# Altium schematic symbol library jlcpcb_resistors_basic.schlib: 256 symbols (part 1 of 5)
Pins are listed as number, name and electrical type; pins without a type are passive.

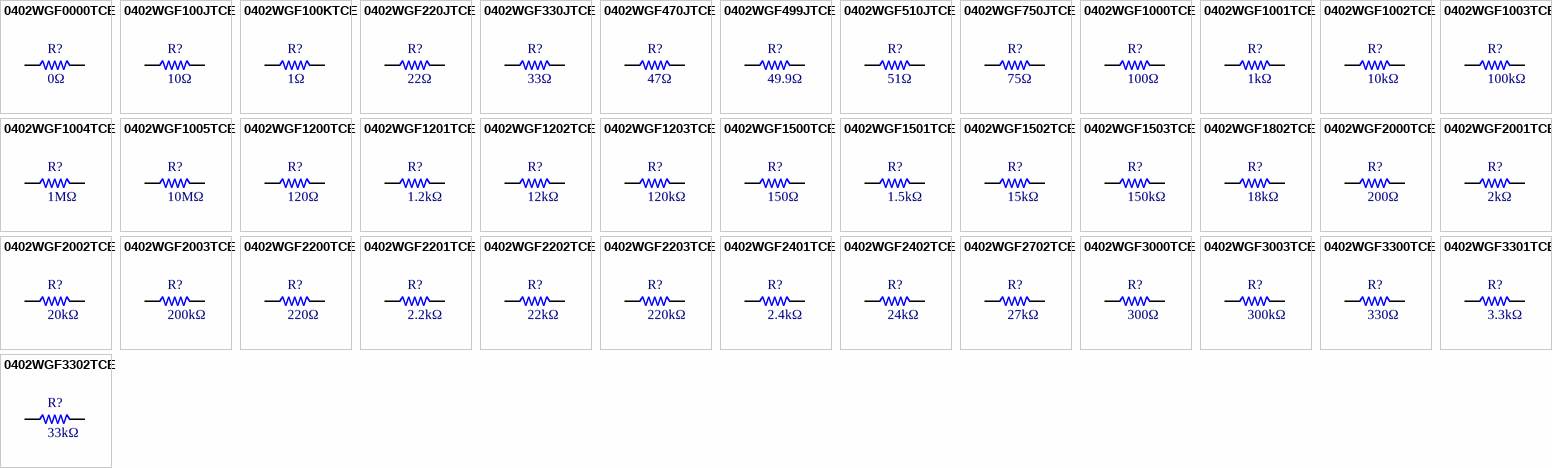
[diagram p0: symbols 0402WGF0000TCE to 0402WGF3302TCE]

## 0402WGF0000TCE
designator R?  Resistance: 0Ω  (hidden comment: *)
Resistor, 0Ω, ±1%, 62.5mW, 50V, ±800ppm/°C, -55°C to +155°C, SMD 0402; Manufacturer: Uniroyal; Manufacturer Part Number: 0402WGF0000TCE; Supplier 1: LCSC; Supplier Part Number 1: C17168; JLCPCB Part Number: C17168; Power Rating: 62.5mW; Category: Resistors; Package Size: 0402; JLCPCB Basic Part: Yes; Tolerance: ±1%; Voltage Rating: 50V; Temperature Coefficient: ±800ppm/°C; Temperature Rating: -55°C to +155°C; ComponentLink1Description: Datasheet; ComponentLink1URL: https://datasheet.lcsc.com/lcsc/2206010216_UNI-ROYAL-Uniroyal-Elec-0402WGF0000TCE_C17168.pdf; ComponentLink2Description: JLCPCB Part URL; ComponentLink2URL: https://jlcpcb.com/partdetail/17853-0402WGF0000TCE/C17168
footprint RES-0402 (0402 (1005M) Resistor)
pins: 1, 2

## 0402WGF100JTCE
designator R?  Resistance: 10Ω  (hidden comment: *)
Resistor, 10Ω, ±1%, 62.5mW, 50V, ±200ppm/°C, -55°C to +155°C, SMD 0402; Manufacturer: Uniroyal; Manufacturer Part Number: 0402WGF100JTCE; Supplier 1: LCSC; Supplier Part Number 1: C25077; JLCPCB Part Number: C25077; Power Rating: 62.5mW; Category: Resistors; Package Size: 0402; JLCPCB Basic Part: Yes; Tolerance: ±1%; Voltage Rating: 50V; Temperature Coefficient: ±200ppm/°C; Temperature Rating: -55°C to +155°C; ComponentLink1Description: Datasheet; ComponentLink1URL: https://datasheet.lcsc.com/lcsc/2205311900_UNI-ROYAL-Uniroyal-Elec-0402WGF100JTCE_C25077.pdf; ComponentLink2Description: JLCPCB Part URL; ComponentLink2URL: https://jlcpcb.com/partdetail/25820-0402WGF100JTCE/C25077
footprint RES-0402 (0402 (1005M) Resistor)
pins: 1, 2

## 0402WGF100KTCE
designator R?  Resistance: 1Ω  (hidden comment: *)
Resistor, 1Ω, ±1%, 62.5mW, 50V, ±200ppm/°C, -55°C to +155°C, SMD 0402; Manufacturer: Uniroyal; Manufacturer Part Number: 0402WGF100KTCE; Supplier 1: LCSC; Supplier Part Number 1: C25086; JLCPCB Part Number: C25086; Power Rating: 62.5mW; Category: Resistors; Package Size: 0402; JLCPCB Basic Part: Yes; Tolerance: ±1%; Voltage Rating: 50V; Temperature Coefficient: ±200ppm/°C; Temperature Rating: -55°C to +155°C; ComponentLink1Description: Datasheet; ComponentLink1URL: https://datasheet.lcsc.com/lcsc/2205311900_UNI-ROYAL-Uniroyal-Elec-0402WGF100KTCE_C25086.pdf; ComponentLink2Description: JLCPCB Part URL; ComponentLink2URL: https://jlcpcb.com/partdetail/25829-0402WGF100KTCE/C25086
footprint RES-0402 (0402 (1005M) Resistor)
pins: 1, 2

## 0402WGF220JTCE
designator R?  Resistance: 22Ω  (hidden comment: *)
Resistor, 22Ω, ±1%, 62.5mW, 50V, ±200ppm/°C, -55°C to +155°C, SMD 0402; Manufacturer: Uniroyal; Manufacturer Part Number: 0402WGF220JTCE; Supplier 1: LCSC; Supplier Part Number 1: C25092; JLCPCB Part Number: C25092; Power Rating: 62.5mW; Category: Resistors; Package Size: 0402; JLCPCB Basic Part: Yes; Tolerance: ±1%; Voltage Rating: 50V; Temperature Coefficient: ±200ppm/°C; Temperature Rating: -55°C to +155°C; ComponentLink1Description: Datasheet; ComponentLink1URL: https://datasheet.lcsc.com/lcsc/2205311900_UNI-ROYAL-Uniroyal-Elec-0402WGF220JTCE_C25092.pdf; ComponentLink2Description: JLCPCB Part URL; ComponentLink2URL: https://jlcpcb.com/partdetail/25835-0402WGF220JTCE/C25092
footprint RES-0402 (0402 (1005M) Resistor)
pins: 1, 2

## 0402WGF330JTCE
designator R?  Resistance: 33Ω  (hidden comment: *)
Resistor, 33Ω, ±1%, 62.5mW, 50V, ±100ppm/°C, -55°C to +155°C, SMD 0402; Manufacturer: Uniroyal; Manufacturer Part Number: 0402WGF330JTCE; Supplier 1: LCSC; Supplier Part Number 1: C25105; JLCPCB Part Number: C25105; Power Rating: 62.5mW; Category: Resistors; Package Size: 0402; JLCPCB Basic Part: Yes; Tolerance: ±1%; Voltage Rating: 50V; Temperature Coefficient: ±100ppm/°C; Temperature Rating: -55°C to +155°C; ComponentLink1Description: Datasheet; ComponentLink1URL: https://datasheet.lcsc.com/lcsc/2205311900_UNI-ROYAL-Uniroyal-Elec-0402WGF330JTCE_C25105.pdf; ComponentLink2Description: JLCPCB Part URL; ComponentLink2URL: https://jlcpcb.com/partdetail/25848-0402WGF330JTCE/C25105
footprint RES-0402 (0402 (1005M) Resistor)
pins: 1, 2

## 0402WGF470JTCE
designator R?  Resistance: 47Ω  (hidden comment: *)
Resistor, 47Ω, ±1%, 62.5mW, 50V, ±200ppm/°C, -55°C to +155°C, SMD 0402; Manufacturer: Uniroyal; Manufacturer Part Number: 0402WGF470JTCE; Supplier 1: LCSC; Supplier Part Number 1: C25118; JLCPCB Part Number: C25118; Power Rating: 62.5mW; Category: Resistors; Package Size: 0402; JLCPCB Basic Part: Yes; Tolerance: ±1%; Voltage Rating: 50V; Temperature Coefficient: ±200ppm/°C; Temperature Rating: -55°C to +155°C; ComponentLink1Description: Datasheet; ComponentLink1URL: https://datasheet.lcsc.com/lcsc/2205311900_UNI-ROYAL-Uniroyal-Elec-0402WGF470JTCE_C25118.pdf; ComponentLink2Description: JLCPCB Part URL; ComponentLink2URL: https://jlcpcb.com/partdetail/25861-0402WGF470JTCE/C25118
footprint RES-0402 (0402 (1005M) Resistor)
pins: 1, 2

## 0402WGF499JTCE
designator R?  Resistance: 49.9Ω  (hidden comment: *)
Resistor, 49.9Ω, ±1%, 62.5mW, 50V, ±100ppm/°C, -55°C to +155°C, SMD 0402; Manufacturer: Uniroyal; Manufacturer Part Number: 0402WGF499JTCE; Supplier 1: LCSC; Supplier Part Number 1: C25120; JLCPCB Part Number: C25120; Power Rating: 62.5mW; Category: Resistors; Package Size: 0402; JLCPCB Basic Part: Yes; Tolerance: ±1%; Voltage Rating: 50V; Temperature Coefficient: ±100ppm/°C; Temperature Rating: -55°C to +155°C; ComponentLink1Description: Datasheet; ComponentLink1URL: https://datasheet.lcsc.com/lcsc/2205311900_UNI-ROYAL-Uniroyal-Elec-0402WGF499JTCE_C25120.pdf; ComponentLink2Description: JLCPCB Part URL; ComponentLink2URL: https://jlcpcb.com/partdetail/25863-0402WGF499JTCE/C25120
footprint RES-0402 (0402 (1005M) Resistor)
pins: 1, 2

## 0402WGF510JTCE
designator R?  Resistance: 51Ω  (hidden comment: *)
Resistor, 51Ω, ±1%, 62.5mW, 50V, ±100ppm/°C, -55°C to +155°C, SMD 0402; Manufacturer: Uniroyal; Manufacturer Part Number: 0402WGF510JTCE; Supplier 1: LCSC; Supplier Part Number 1: C25125; JLCPCB Part Number: C25125; Power Rating: 62.5mW; Category: Resistors; Package Size: 0402; JLCPCB Basic Part: Yes; Tolerance: ±1%; Voltage Rating: 50V; Temperature Coefficient: ±100ppm/°C; Temperature Rating: -55°C to +155°C; ComponentLink1Description: Datasheet; ComponentLink1URL: https://datasheet.lcsc.com/lcsc/2205311900_UNI-ROYAL-Uniroyal-Elec-0402WGF510JTCE_C25125.pdf; ComponentLink2Description: JLCPCB Part URL; ComponentLink2URL: https://jlcpcb.com/partdetail/25868-0402WGF510JTCE/C25125
footprint RES-0402 (0402 (1005M) Resistor)
pins: 1, 2

## 0402WGF750JTCE
designator R?  Resistance: 75Ω  (hidden comment: *)
Resistor, 75Ω, ±1%, 62.5mW, 50V, ±100ppm/°C, -55°C to +155°C, SMD 0402; Manufacturer: Uniroyal; Manufacturer Part Number: 0402WGF750JTCE; Supplier 1: LCSC; Supplier Part Number 1: C25133; JLCPCB Part Number: C25133; Power Rating: 62.5mW; Category: Resistors; Package Size: 0402; JLCPCB Basic Part: Yes; Tolerance: ±1%; Voltage Rating: 50V; Temperature Coefficient: ±100ppm/°C; Temperature Rating: -55°C to +155°C; ComponentLink1Description: Datasheet; ComponentLink1URL: https://datasheet.lcsc.com/lcsc/2205311900_UNI-ROYAL-Uniroyal-Elec-0402WGF750JTCE_C25133.pdf; ComponentLink2Description: JLCPCB Part URL; ComponentLink2URL: https://jlcpcb.com/partdetail/25876-0402WGF750JTCE/C25133
footprint RES-0402 (0402 (1005M) Resistor)
pins: 1, 2

## 0402WGF1000TCE
designator R?  Resistance: 100Ω  (hidden comment: *)
Resistor, 100Ω, ±1%, 62.5mW, 50V, ±200ppm/°C, -55°C to +155°C, SMD 0402; Manufacturer: Uniroyal; Manufacturer Part Number: 0402WGF1000TCE; Supplier 1: LCSC; Supplier Part Number 1: C25076; JLCPCB Part Number: C25076; Power Rating: 62.5mW; Category: Resistors; Package Size: 0402; JLCPCB Basic Part: Yes; Tolerance: ±1%; Voltage Rating: 50V; Temperature Coefficient: ±200ppm/°C; Temperature Rating: -55°C to +155°C; ComponentLink1Description: Datasheet; ComponentLink1URL: https://datasheet.lcsc.com/lcsc/2205311900_UNI-ROYAL-Uniroyal-Elec-0402WGF1000TCE_C25076.pdf; ComponentLink2Description: JLCPCB Part URL; ComponentLink2URL: https://jlcpcb.com/partdetail/25819-0402WGF1000TCE/C25076
footprint RES-0402 (0402 (1005M) Resistor)
pins: 1, 2

## 0402WGF1001TCE
designator R?  Resistance: 1kΩ  (hidden comment: *)
Resistor, 1kΩ, ±1%, 62.5mW, 50V, ±100ppm/°C, -55°C to +155°C, SMD 0402; Manufacturer: Uniroyal; Manufacturer Part Number: 0402WGF1001TCE; Supplier 1: LCSC; Supplier Part Number 1: C11702; JLCPCB Part Number: C11702; Power Rating: 62.5mW; Category: Resistors; Package Size: 0402; JLCPCB Basic Part: Yes; Tolerance: ±1%; Voltage Rating: 50V; Temperature Coefficient: ±100ppm/°C; Temperature Rating: -55°C to +155°C; ComponentLink1Description: Datasheet; ComponentLink1URL: https://datasheet.lcsc.com/lcsc/2206010216_UNI-ROYAL-Uniroyal-Elec-0402WGF1001TCE_C11702.pdf; ComponentLink2Description: JLCPCB Part URL; ComponentLink2URL: https://jlcpcb.com/partdetail/12256-0402WGF1001TCE/C11702
footprint RES-0402 (0402 (1005M) Resistor)
pins: 1, 2

## 0402WGF1002TCE
designator R?  Resistance: 10kΩ  (hidden comment: *)
Resistor, 10kΩ, ±1%, 62.5mW, 50V, ±100ppm/°C, -55°C to +155°C, SMD 0402; Manufacturer: Uniroyal; Manufacturer Part Number: 0402WGF1002TCE; Supplier 1: LCSC; Supplier Part Number 1: C25744; JLCPCB Part Number: C25744; Power Rating: 62.5mW; Category: Resistors; Package Size: 0402; JLCPCB Basic Part: Yes; Tolerance: ±1%; Voltage Rating: 50V; Temperature Coefficient: ±100ppm/°C; Temperature Rating: -55°C to +155°C; ComponentLink1Description: Datasheet; ComponentLink1URL: https://datasheet.lcsc.com/lcsc/2206010100_UNI-ROYAL-Uniroyal-Elec-0402WGF1002TCE_C25744.pdf; ComponentLink2Description: JLCPCB Part URL; ComponentLink2URL: https://jlcpcb.com/partdetail/26487-0402WGF1002TCE/C25744
footprint RES-0402 (0402 (1005M) Resistor)
pins: 1, 2

## 0402WGF1003TCE
designator R?  Resistance: 100kΩ  (hidden comment: *)
Resistor, 100kΩ, ±1%, 62.5mW, 50V, ±100ppm/°C, -55°C to +155°C, SMD 0402; Manufacturer: Uniroyal; Manufacturer Part Number: 0402WGF1003TCE; Supplier 1: LCSC; Supplier Part Number 1: C25741; JLCPCB Part Number: C25741; Power Rating: 62.5mW; Category: Resistors; Package Size: 0402; JLCPCB Basic Part: Yes; Tolerance: ±1%; Voltage Rating: 50V; Temperature Coefficient: ±100ppm/°C; Temperature Rating: -55°C to +155°C; ComponentLink1Description: Datasheet; ComponentLink1URL: https://datasheet.lcsc.com/lcsc/2206010100_UNI-ROYAL-Uniroyal-Elec-0402WGF1003TCE_C25741.pdf; ComponentLink2Description: JLCPCB Part URL; ComponentLink2URL: https://jlcpcb.com/partdetail/26484-0402WGF1003TCE/C25741
footprint RES-0402 (0402 (1005M) Resistor)
pins: 1, 2

## 0402WGF1004TCE
designator R?  Resistance: 1MΩ  (hidden comment: *)
Resistor, 1MΩ, ±1%, 62.5mW, 50V, ±100ppm/°C, -55°C to +155°C, SMD 0402; Manufacturer: Uniroyal; Manufacturer Part Number: 0402WGF1004TCE; Supplier 1: LCSC; Supplier Part Number 1: C26083; JLCPCB Part Number: C26083; Power Rating: 62.5mW; Category: Resistors; Package Size: 0402; JLCPCB Basic Part: Yes; Tolerance: ±1%; Voltage Rating: 50V; Temperature Coefficient: ±100ppm/°C; Temperature Rating: -55°C to +155°C; ComponentLink1Description: Datasheet; ComponentLink1URL: https://datasheet.lcsc.com/lcsc/2206010030_UNI-ROYAL-Uniroyal-Elec-0402WGF1004TCE_C26083.pdf; ComponentLink2Description: JLCPCB Part URL; ComponentLink2URL: https://jlcpcb.com/partdetail/26826-0402WGF1004TCE/C26083
footprint RES-0402 (0402 (1005M) Resistor)
pins: 1, 2

## 0402WGF1005TCE
designator R?  Resistance: 10MΩ  (hidden comment: *)
Resistor, 10MΩ, ±1%, 62.5mW, 50V, ±200ppm/°C, -55°C to +155°C, SMD 0402; Manufacturer: Uniroyal; Manufacturer Part Number: 0402WGF1005TCE; Supplier 1: LCSC; Supplier Part Number 1: C26082; JLCPCB Part Number: C26082; Power Rating: 62.5mW; Category: Resistors; Package Size: 0402; JLCPCB Basic Part: Yes; Tolerance: ±1%; Voltage Rating: 50V; Temperature Coefficient: ±200ppm/°C; Temperature Rating: -55°C to +155°C; ComponentLink1Description: Datasheet; ComponentLink1URL: https://datasheet.lcsc.com/lcsc/2206010030_UNI-ROYAL-Uniroyal-Elec-0402WGF1005TCE_C26082.pdf; ComponentLink2Description: JLCPCB Part URL; ComponentLink2URL: https://jlcpcb.com/partdetail/26825-0402WGF1005TCE/C26082
footprint RES-0402 (0402 (1005M) Resistor)
pins: 1, 2

## 0402WGF1200TCE
designator R?  Resistance: 120Ω  (hidden comment: *)
Resistor, 120Ω, ±1%, 62.5mW, 50V, ±100ppm/°C, -55°C to +155°C, SMD 0402; Manufacturer: Uniroyal; Manufacturer Part Number: 0402WGF1200TCE; Supplier 1: LCSC; Supplier Part Number 1: C25079; JLCPCB Part Number: C25079; Power Rating: 62.5mW; Category: Resistors; Package Size: 0402; JLCPCB Basic Part: Yes; Tolerance: ±1%; Voltage Rating: 50V; Temperature Coefficient: ±100ppm/°C; Temperature Rating: -55°C to +155°C; ComponentLink1Description: Datasheet; ComponentLink1URL: https://datasheet.lcsc.com/lcsc/2205311900_UNI-ROYAL-Uniroyal-Elec-0402WGF1200TCE_C25079.pdf; ComponentLink2Description: JLCPCB Part URL; ComponentLink2URL: https://jlcpcb.com/partdetail/25822-0402WGF1200TCE/C25079
footprint RES-0402 (0402 (1005M) Resistor)
pins: 1, 2

## 0402WGF1201TCE
designator R?  Resistance: 1.2kΩ  (hidden comment: *)
Resistor, 1.2kΩ, ±1%, 62.5mW, 50V, ±100ppm/°C, -55°C to +155°C, SMD 0402; Manufacturer: Uniroyal; Manufacturer Part Number: 0402WGF1201TCE; Supplier 1: LCSC; Supplier Part Number 1: C25862; JLCPCB Part Number: C25862; Power Rating: 62.5mW; Category: Resistors; Package Size: 0402; JLCPCB Basic Part: Yes; Tolerance: ±1%; Voltage Rating: 50V; Temperature Coefficient: ±100ppm/°C; Temperature Rating: -55°C to +155°C; ComponentLink1Description: Datasheet; ComponentLink1URL: https://datasheet.lcsc.com/lcsc/2206010045_UNI-ROYAL-Uniroyal-Elec-0402WGF1201TCE_C25862.pdf; ComponentLink2Description: JLCPCB Part URL; ComponentLink2URL: https://jlcpcb.com/partdetail/26605-0402WGF1201TCE/C25862
footprint RES-0402 (0402 (1005M) Resistor)
pins: 1, 2

## 0402WGF1202TCE
designator R?  Resistance: 12kΩ  (hidden comment: *)
Resistor, 12kΩ, ±1%, 62.5mW, 50V, ±100ppm/°C, -55°C to +155°C, SMD 0402; Manufacturer: Uniroyal; Manufacturer Part Number: 0402WGF1202TCE; Supplier 1: LCSC; Supplier Part Number 1: C25752; JLCPCB Part Number: C25752; Power Rating: 62.5mW; Category: Resistors; Package Size: 0402; JLCPCB Basic Part: Yes; Tolerance: ±1%; Voltage Rating: 50V; Temperature Coefficient: ±100ppm/°C; Temperature Rating: -55°C to +155°C; ComponentLink1Description: Datasheet; ComponentLink1URL: https://datasheet.lcsc.com/lcsc/2206010100_UNI-ROYAL-Uniroyal-Elec-0402WGF1202TCE_C25752.pdf; ComponentLink2Description: JLCPCB Part URL; ComponentLink2URL: https://jlcpcb.com/partdetail/26495-0402WGF1202TCE/C25752
footprint RES-0402 (0402 (1005M) Resistor)
pins: 1, 2

## 0402WGF1203TCE
designator R?  Resistance: 120kΩ  (hidden comment: *)
Resistor, 120kΩ, ±1%, 62.5mW, 50V, ±100ppm/°C, -55°C to +155°C, SMD 0402; Manufacturer: Uniroyal; Manufacturer Part Number: 0402WGF1203TCE; Supplier 1: LCSC; Supplier Part Number 1: C25750; JLCPCB Part Number: C25750; Power Rating: 62.5mW; Category: Resistors; Package Size: 0402; JLCPCB Basic Part: Yes; Tolerance: ±1%; Voltage Rating: 50V; Temperature Coefficient: ±100ppm/°C; Temperature Rating: -55°C to +155°C; ComponentLink1Description: Datasheet; ComponentLink1URL: https://datasheet.lcsc.com/lcsc/2206010100_UNI-ROYAL-Uniroyal-Elec-0402WGF1203TCE_C25750.pdf; ComponentLink2Description: JLCPCB Part URL; ComponentLink2URL: https://jlcpcb.com/partdetail/26493-0402WGF1203TCE/C25750
footprint RES-0402 (0402 (1005M) Resistor)
pins: 1, 2

## 0402WGF1500TCE
designator R?  Resistance: 150Ω  (hidden comment: *)
Resistor, 150Ω, ±1%, 62.5mW, 50V, ±100ppm/°C, -55°C to +155°C, SMD 0402; Manufacturer: Uniroyal; Manufacturer Part Number: 0402WGF1500TCE; Supplier 1: LCSC; Supplier Part Number 1: C25082; JLCPCB Part Number: C25082; Power Rating: 62.5mW; Category: Resistors; Package Size: 0402; JLCPCB Basic Part: Yes; Tolerance: ±1%; Voltage Rating: 50V; Temperature Coefficient: ±100ppm/°C; Temperature Rating: -55°C to +155°C; ComponentLink1Description: Datasheet; ComponentLink1URL: https://datasheet.lcsc.com/lcsc/2205311900_UNI-ROYAL-Uniroyal-Elec-0402WGF1500TCE_C25082.pdf; ComponentLink2Description: JLCPCB Part URL; ComponentLink2URL: https://jlcpcb.com/partdetail/25825-0402WGF1500TCE/C25082
footprint RES-0402 (0402 (1005M) Resistor)
pins: 1, 2

## 0402WGF1501TCE
designator R?  Resistance: 1.5kΩ  (hidden comment: *)
Resistor, 1.5kΩ, ±1%, 62.5mW, 50V, ±100ppm/°C, -55°C to +155°C, SMD 0402; Manufacturer: Uniroyal; Manufacturer Part Number: 0402WGF1501TCE; Supplier 1: LCSC; Supplier Part Number 1: C25867; JLCPCB Part Number: C25867; Power Rating: 62.5mW; Category: Resistors; Package Size: 0402; JLCPCB Basic Part: Yes; Tolerance: ±1%; Voltage Rating: 50V; Temperature Coefficient: ±100ppm/°C; Temperature Rating: -55°C to +155°C; ComponentLink1Description: Datasheet; ComponentLink1URL: https://datasheet.lcsc.com/lcsc/2206010045_UNI-ROYAL-Uniroyal-Elec-0402WGF1501TCE_C25867.pdf; ComponentLink2Description: JLCPCB Part URL; ComponentLink2URL: https://jlcpcb.com/partdetail/26610-0402WGF1501TCE/C25867
footprint RES-0402 (0402 (1005M) Resistor)
pins: 1, 2

## 0402WGF1502TCE
designator R?  Resistance: 15kΩ  (hidden comment: *)
Resistor, 15kΩ, ±1%, 62.5mW, 50V, ±100ppm/°C, -55°C to +155°C, SMD 0402; Manufacturer: Uniroyal; Manufacturer Part Number: 0402WGF1502TCE; Supplier 1: LCSC; Supplier Part Number 1: C25756; JLCPCB Part Number: C25756; Power Rating: 62.5mW; Category: Resistors; Package Size: 0402; JLCPCB Basic Part: Yes; Tolerance: ±1%; Voltage Rating: 50V; Temperature Coefficient: ±100ppm/°C; Temperature Rating: -55°C to +155°C; ComponentLink1Description: Datasheet; ComponentLink1URL: https://datasheet.lcsc.com/lcsc/2206010100_UNI-ROYAL-Uniroyal-Elec-0402WGF1502TCE_C25756.pdf; ComponentLink2Description: JLCPCB Part URL; ComponentLink2URL: https://jlcpcb.com/partdetail/26499-0402WGF1502TCE/C25756
footprint RES-0402 (0402 (1005M) Resistor)
pins: 1, 2

## 0402WGF1503TCE
designator R?  Resistance: 150kΩ  (hidden comment: *)
Resistor, 150kΩ, ±1%, 62.5mW, 50V, ±100ppm/°C, -55°C to +155°C, SMD 0402; Manufacturer: Uniroyal; Manufacturer Part Number: 0402WGF1503TCE; Supplier 1: LCSC; Supplier Part Number 1: C25755; JLCPCB Part Number: C25755; Power Rating: 62.5mW; Category: Resistors; Package Size: 0402; JLCPCB Basic Part: Yes; Tolerance: ±1%; Voltage Rating: 50V; Temperature Coefficient: ±100ppm/°C; Temperature Rating: -55°C to +155°C; ComponentLink1Description: Datasheet; ComponentLink1URL: https://datasheet.lcsc.com/lcsc/2206010100_UNI-ROYAL-Uniroyal-Elec-0402WGF1503TCE_C25755.pdf; ComponentLink2Description: JLCPCB Part URL; ComponentLink2URL: https://jlcpcb.com/partdetail/26498-0402WGF1503TCE/C25755
footprint RES-0402 (0402 (1005M) Resistor)
pins: 1, 2

## 0402WGF1802TCE
designator R?  Resistance: 18kΩ  (hidden comment: *)
Resistor, 18kΩ, ±1%, 62.5mW, 50V, ±100ppm/°C, -55°C to +155°C, SMD 0402; Manufacturer: Uniroyal; Manufacturer Part Number: 0402WGF1802TCE; Supplier 1: LCSC; Supplier Part Number 1: C25762; JLCPCB Part Number: C25762; Power Rating: 62.5mW; Category: Resistors; Package Size: 0402; JLCPCB Basic Part: Yes; Tolerance: ±1%; Voltage Rating: 50V; Temperature Coefficient: ±100ppm/°C; Temperature Rating: -55°C to +155°C; ComponentLink1Description: Datasheet; ComponentLink1URL: https://datasheet.lcsc.com/lcsc/2206010100_UNI-ROYAL-Uniroyal-Elec-0402WGF1802TCE_C25762.pdf; ComponentLink2Description: JLCPCB Part URL; ComponentLink2URL: https://jlcpcb.com/partdetail/26505-0402WGF1802TCE/C25762
footprint RES-0402 (0402 (1005M) Resistor)
pins: 1, 2

## 0402WGF2000TCE
designator R?  Resistance: 200Ω  (hidden comment: *)
Resistor, 200Ω, ±1%, 62.5mW, 50V, ±100ppm/°C, -55°C to +155°C, SMD 0402; Manufacturer: Uniroyal; Manufacturer Part Number: 0402WGF2000TCE; Supplier 1: LCSC; Supplier Part Number 1: C25087; JLCPCB Part Number: C25087; Power Rating: 62.5mW; Category: Resistors; Package Size: 0402; JLCPCB Basic Part: Yes; Tolerance: ±1%; Voltage Rating: 50V; Temperature Coefficient: ±100ppm/°C; Temperature Rating: -55°C to +155°C; ComponentLink1Description: Datasheet; ComponentLink1URL: https://datasheet.lcsc.com/lcsc/2205311900_UNI-ROYAL-Uniroyal-Elec-0402WGF2000TCE_C25087.pdf; ComponentLink2Description: JLCPCB Part URL; ComponentLink2URL: https://jlcpcb.com/partdetail/25830-0402WGF2000TCE/C25087
footprint RES-0402 (0402 (1005M) Resistor)
pins: 1, 2

## 0402WGF2001TCE
designator R?  Resistance: 2kΩ  (hidden comment: *)
Resistor, 2kΩ, ±1%, 62.5mW, 50V, ±100ppm/°C, -55°C to +155°C, SMD 0402; Manufacturer: Uniroyal; Manufacturer Part Number: 0402WGF2001TCE; Supplier 1: LCSC; Supplier Part Number 1: C4109; JLCPCB Part Number: C4109; Power Rating: 62.5mW; Category: Resistors; Package Size: 0402; JLCPCB Basic Part: Yes; Tolerance: ±1%; Voltage Rating: 50V; Temperature Coefficient: ±100ppm/°C; Temperature Rating: -55°C to +155°C; ComponentLink1Description: Datasheet; ComponentLink1URL: https://datasheet.lcsc.com/lcsc/2206010230_UNI-ROYAL-Uniroyal-Elec-0402WGF2001TCE_C4109.pdf; ComponentLink2Description: JLCPCB Part URL; ComponentLink2URL: https://jlcpcb.com/partdetail/4516-0402WGF2001TCE/C4109
footprint RES-0402 (0402 (1005M) Resistor)
pins: 1, 2

## 0402WGF2002TCE
designator R?  Resistance: 20kΩ  (hidden comment: *)
Resistor, 20kΩ, ±1%, 62.5mW, 50V, ±100ppm/°C, -55°C to +155°C, SMD 0402; Manufacturer: Uniroyal; Manufacturer Part Number: 0402WGF2002TCE; Supplier 1: LCSC; Supplier Part Number 1: C25765; JLCPCB Part Number: C25765; Power Rating: 62.5mW; Category: Resistors; Package Size: 0402; JLCPCB Basic Part: Yes; Tolerance: ±1%; Voltage Rating: 50V; Temperature Coefficient: ±100ppm/°C; Temperature Rating: -55°C to +155°C; ComponentLink1Description: Datasheet; ComponentLink1URL: https://datasheet.lcsc.com/lcsc/2206010100_UNI-ROYAL-Uniroyal-Elec-0402WGF2002TCE_C25765.pdf; ComponentLink2Description: JLCPCB Part URL; ComponentLink2URL: https://jlcpcb.com/partdetail/26508-0402WGF2002TCE/C25765
footprint RES-0402 (0402 (1005M) Resistor)
pins: 1, 2

## 0402WGF2003TCE
designator R?  Resistance: 200kΩ  (hidden comment: *)
Resistor, 200kΩ, ±1%, 62.5mW, 50V, ±100ppm/°C, -55°C to +155°C, SMD 0402; Manufacturer: Uniroyal; Manufacturer Part Number: 0402WGF2003TCE; Supplier 1: LCSC; Supplier Part Number 1: C25764; JLCPCB Part Number: C25764; Power Rating: 62.5mW; Category: Resistors; Package Size: 0402; JLCPCB Basic Part: Yes; Tolerance: ±1%; Voltage Rating: 50V; Temperature Coefficient: ±100ppm/°C; Temperature Rating: -55°C to +155°C; ComponentLink1Description: Datasheet; ComponentLink1URL: https://datasheet.lcsc.com/lcsc/2206010100_UNI-ROYAL-Uniroyal-Elec-0402WGF2003TCE_C25764.pdf; ComponentLink2Description: JLCPCB Part URL; ComponentLink2URL: https://jlcpcb.com/partdetail/26507-0402WGF2003TCE/C25764
footprint RES-0402 (0402 (1005M) Resistor)
pins: 1, 2

## 0402WGF2200TCE
designator R?  Resistance: 220Ω  (hidden comment: *)
Resistor, 220Ω, ±1%, 62.5mW, 50V, ±100ppm/°C, -55°C to +155°C, SMD 0402; Manufacturer: Uniroyal; Manufacturer Part Number: 0402WGF2200TCE; Supplier 1: LCSC; Supplier Part Number 1: C25091; JLCPCB Part Number: C25091; Power Rating: 62.5mW; Category: Resistors; Package Size: 0402; JLCPCB Basic Part: Yes; Tolerance: ±1%; Voltage Rating: 50V; Temperature Coefficient: ±100ppm/°C; Temperature Rating: -55°C to +155°C; ComponentLink1Description: Datasheet; ComponentLink1URL: https://datasheet.lcsc.com/lcsc/2205311900_UNI-ROYAL-Uniroyal-Elec-0402WGF2200TCE_C25091.pdf; ComponentLink2Description: JLCPCB Part URL; ComponentLink2URL: https://jlcpcb.com/partdetail/25834-0402WGF2200TCE/C25091
footprint RES-0402 (0402 (1005M) Resistor)
pins: 1, 2

## 0402WGF2201TCE
designator R?  Resistance: 2.2kΩ  (hidden comment: *)
Resistor, 2.2kΩ, ±1%, 62.5mW, 50V, ±100ppm/°C, -55°C to +155°C, SMD 0402; Manufacturer: Uniroyal; Manufacturer Part Number: 0402WGF2201TCE; Supplier 1: LCSC; Supplier Part Number 1: C25879; JLCPCB Part Number: C25879; Power Rating: 62.5mW; Category: Resistors; Package Size: 0402; JLCPCB Basic Part: Yes; Tolerance: ±1%; Voltage Rating: 50V; Temperature Coefficient: ±100ppm/°C; Temperature Rating: -55°C to +155°C; ComponentLink1Description: Datasheet; ComponentLink1URL: https://datasheet.lcsc.com/lcsc/2206010045_UNI-ROYAL-Uniroyal-Elec-0402WGF2201TCE_C25879.pdf; ComponentLink2Description: JLCPCB Part URL; ComponentLink2URL: https://jlcpcb.com/partdetail/26622-0402WGF2201TCE/C25879
footprint RES-0402 (0402 (1005M) Resistor)
pins: 1, 2

## 0402WGF2202TCE
designator R?  Resistance: 22kΩ  (hidden comment: *)
Resistor, 22kΩ, ±1%, 62.5mW, 50V, ±100ppm/°C, -55°C to +155°C, SMD 0402; Manufacturer: Uniroyal; Manufacturer Part Number: 0402WGF2202TCE; Supplier 1: LCSC; Supplier Part Number 1: C25768; JLCPCB Part Number: C25768; Power Rating: 62.5mW; Category: Resistors; Package Size: 0402; JLCPCB Basic Part: Yes; Tolerance: ±1%; Voltage Rating: 50V; Temperature Coefficient: ±100ppm/°C; Temperature Rating: -55°C to +155°C; ComponentLink1Description: Datasheet; ComponentLink1URL: https://datasheet.lcsc.com/lcsc/2206010100_UNI-ROYAL-Uniroyal-Elec-0402WGF2202TCE_C25768.pdf; ComponentLink2Description: JLCPCB Part URL; ComponentLink2URL: https://jlcpcb.com/partdetail/26511-0402WGF2202TCE/C25768
footprint RES-0402 (0402 (1005M) Resistor)
pins: 1, 2

## 0402WGF2203TCE
designator R?  Resistance: 220kΩ  (hidden comment: *)
Resistor, 220kΩ, ±1%, 62.5mW, 50V, ±100ppm/°C, -55°C to +155°C, SMD 0402; Manufacturer: Uniroyal; Manufacturer Part Number: 0402WGF2203TCE; Supplier 1: LCSC; Supplier Part Number 1: C25767; JLCPCB Part Number: C25767; Power Rating: 62.5mW; Category: Resistors; Package Size: 0402; JLCPCB Basic Part: Yes; Tolerance: ±1%; Voltage Rating: 50V; Temperature Coefficient: ±100ppm/°C; Temperature Rating: -55°C to +155°C; ComponentLink1Description: Datasheet; ComponentLink1URL: https://datasheet.lcsc.com/lcsc/2206010100_UNI-ROYAL-Uniroyal-Elec-0402WGF2203TCE_C25767.pdf; ComponentLink2Description: JLCPCB Part URL; ComponentLink2URL: https://jlcpcb.com/partdetail/26510-0402WGF2203TCE/C25767
footprint RES-0402 (0402 (1005M) Resistor)
pins: 1, 2

## 0402WGF2401TCE
designator R?  Resistance: 2.4kΩ  (hidden comment: *)
Resistor, 2.4kΩ, ±1%, 62.5mW, 50V, ±100ppm/°C, -55°C to +155°C, SMD 0402; Manufacturer: Uniroyal; Manufacturer Part Number: 0402WGF2401TCE; Supplier 1: LCSC; Supplier Part Number 1: C25882; JLCPCB Part Number: C25882; Power Rating: 62.5mW; Category: Resistors; Package Size: 0402; JLCPCB Basic Part: Yes; Tolerance: ±1%; Voltage Rating: 50V; Temperature Coefficient: ±100ppm/°C; Temperature Rating: -55°C to +155°C; ComponentLink1Description: Datasheet; ComponentLink1URL: https://datasheet.lcsc.com/lcsc/2206010045_UNI-ROYAL-Uniroyal-Elec-0402WGF2401TCE_C25882.pdf; ComponentLink2Description: JLCPCB Part URL; ComponentLink2URL: https://jlcpcb.com/partdetail/26625-0402WGF2401TCE/C25882
footprint RES-0402 (0402 (1005M) Resistor)
pins: 1, 2

## 0402WGF2402TCE
designator R?  Resistance: 24kΩ  (hidden comment: *)
Resistor, 24kΩ, ±1%, 62.5mW, 50V, ±100ppm/°C, -55°C to +155°C, SMD 0402; Manufacturer: Uniroyal; Manufacturer Part Number: 0402WGF2402TCE; Supplier 1: LCSC; Supplier Part Number 1: C25769; JLCPCB Part Number: C25769; Power Rating: 62.5mW; Category: Resistors; Package Size: 0402; JLCPCB Basic Part: Yes; Tolerance: ±1%; Voltage Rating: 50V; Temperature Coefficient: ±100ppm/°C; Temperature Rating: -55°C to +155°C; ComponentLink1Description: Datasheet; ComponentLink1URL: https://datasheet.lcsc.com/lcsc/2206010100_UNI-ROYAL-Uniroyal-Elec-0402WGF2402TCE_C25769.pdf; ComponentLink2Description: JLCPCB Part URL; ComponentLink2URL: https://jlcpcb.com/partdetail/26512-0402WGF2402TCE/C25769
footprint RES-0402 (0402 (1005M) Resistor)
pins: 1, 2

## 0402WGF2702TCE
designator R?  Resistance: 27kΩ  (hidden comment: *)
Resistor, 27kΩ, ±1%, 62.5mW, 50V, ±100ppm/°C, -55°C to +155°C, SMD 0402; Manufacturer: Uniroyal; Manufacturer Part Number: 0402WGF2702TCE; Supplier 1: LCSC; Supplier Part Number 1: C25771; JLCPCB Part Number: C25771; Power Rating: 62.5mW; Category: Resistors; Package Size: 0402; JLCPCB Basic Part: Yes; Tolerance: ±1%; Voltage Rating: 50V; Temperature Coefficient: ±100ppm/°C; Temperature Rating: -55°C to +155°C; ComponentLink1Description: Datasheet; ComponentLink1URL: https://datasheet.lcsc.com/lcsc/2206010100_UNI-ROYAL-Uniroyal-Elec-0402WGF2702TCE_C25771.pdf; ComponentLink2Description: JLCPCB Part URL; ComponentLink2URL: https://jlcpcb.com/partdetail/26514-0402WGF2702TCE/C25771
footprint RES-0402 (0402 (1005M) Resistor)
pins: 1, 2

## 0402WGF3000TCE
designator R?  Resistance: 300Ω  (hidden comment: *)
Resistor, 300Ω, ±1%, 62.5mW, 50V, ±100ppm/°C, -55°C to +155°C, SMD 0402; Manufacturer: Uniroyal; Manufacturer Part Number: 0402WGF3000TCE; Supplier 1: LCSC; Supplier Part Number 1: C25102; JLCPCB Part Number: C25102; Power Rating: 62.5mW; Category: Resistors; Package Size: 0402; JLCPCB Basic Part: Yes; Tolerance: ±1%; Voltage Rating: 50V; Temperature Coefficient: ±100ppm/°C; Temperature Rating: -55°C to +155°C; ComponentLink1Description: Datasheet; ComponentLink1URL: https://datasheet.lcsc.com/lcsc/2205311900_UNI-ROYAL-Uniroyal-Elec-0402WGF3000TCE_C25102.pdf; ComponentLink2Description: JLCPCB Part URL; ComponentLink2URL: https://jlcpcb.com/partdetail/25845-0402WGF3000TCE/C25102
footprint RES-0402 (0402 (1005M) Resistor)
pins: 1, 2

## 0402WGF3003TCE
designator R?  Resistance: 300kΩ  (hidden comment: *)
Resistor, 300kΩ, ±1%, 62.5mW, 50V, ±100ppm/°C, -55°C to +155°C, SMD 0402; Manufacturer: Uniroyal; Manufacturer Part Number: 0402WGF3003TCE; Supplier 1: LCSC; Supplier Part Number 1: C25774; JLCPCB Part Number: C25774; Power Rating: 62.5mW; Category: Resistors; Package Size: 0402; JLCPCB Basic Part: Yes; Tolerance: ±1%; Voltage Rating: 50V; Temperature Coefficient: ±100ppm/°C; Temperature Rating: -55°C to +155°C; ComponentLink1Description: Datasheet; ComponentLink1URL: https://datasheet.lcsc.com/lcsc/2206010100_UNI-ROYAL-Uniroyal-Elec-0402WGF3003TCE_C25774.pdf; ComponentLink2Description: JLCPCB Part URL; ComponentLink2URL: https://jlcpcb.com/partdetail/26517-0402WGF3003TCE/C25774
footprint RES-0402 (0402 (1005M) Resistor)
pins: 1, 2

## 0402WGF3300TCE
designator R?  Resistance: 330Ω  (hidden comment: *)
Resistor, 330Ω, ±1%, 62.5mW, 50V, ±100ppm/°C, -55°C to +155°C, SMD 0402; Manufacturer: Uniroyal; Manufacturer Part Number: 0402WGF3300TCE; Supplier 1: LCSC; Supplier Part Number 1: C25104; JLCPCB Part Number: C25104; Power Rating: 62.5mW; Category: Resistors; Package Size: 0402; JLCPCB Basic Part: Yes; Tolerance: ±1%; Voltage Rating: 50V; Temperature Coefficient: ±100ppm/°C; Temperature Rating: -55°C to +155°C; ComponentLink1Description: Datasheet; ComponentLink1URL: https://datasheet.lcsc.com/lcsc/2205311900_UNI-ROYAL-Uniroyal-Elec-0402WGF3300TCE_C25104.pdf; ComponentLink2Description: JLCPCB Part URL; ComponentLink2URL: https://jlcpcb.com/partdetail/25847-0402WGF3300TCE/C25104
footprint RES-0402 (0402 (1005M) Resistor)
pins: 1, 2

## 0402WGF3301TCE
designator R?  Resistance: 3.3kΩ  (hidden comment: *)
Resistor, 3.3kΩ, ±1%, 62.5mW, 50V, ±100ppm/°C, -55°C to +155°C, SMD 0402; Manufacturer: Uniroyal; Manufacturer Part Number: 0402WGF3301TCE; Supplier 1: LCSC; Supplier Part Number 1: C25890; JLCPCB Part Number: C25890; Power Rating: 62.5mW; Category: Resistors; Package Size: 0402; JLCPCB Basic Part: Yes; Tolerance: ±1%; Voltage Rating: 50V; Temperature Coefficient: ±100ppm/°C; Temperature Rating: -55°C to +155°C; ComponentLink1Description: Datasheet; ComponentLink1URL: https://datasheet.lcsc.com/lcsc/2206010045_UNI-ROYAL-Uniroyal-Elec-0402WGF3301TCE_C25890.pdf; ComponentLink2Description: JLCPCB Part URL; ComponentLink2URL: https://jlcpcb.com/partdetail/26633-0402WGF3301TCE/C25890
footprint RES-0402 (0402 (1005M) Resistor)
pins: 1, 2

## 0402WGF3302TCE
designator R?  Resistance: 33kΩ  (hidden comment: *)
Resistor, 33kΩ, ±1%, 62.5mW, 50V, ±100ppm/°C, -55°C to +155°C, SMD 0402; Manufacturer: Uniroyal; Manufacturer Part Number: 0402WGF3302TCE; Supplier 1: LCSC; Supplier Part Number 1: C25779; JLCPCB Part Number: C25779; Power Rating: 62.5mW; Category: Resistors; Package Size: 0402; JLCPCB Basic Part: Yes; Tolerance: ±1%; Voltage Rating: 50V; Temperature Coefficient: ±100ppm/°C; Temperature Rating: -55°C to +155°C; ComponentLink1Description: Datasheet; ComponentLink1URL: https://datasheet.lcsc.com/lcsc/2206010100_UNI-ROYAL-Uniroyal-Elec-0402WGF3302TCE_C25779.pdf; ComponentLink2Description: JLCPCB Part URL; ComponentLink2URL: https://jlcpcb.com/partdetail/26522-0402WGF3302TCE/C25779
footprint RES-0402 (0402 (1005M) Resistor)
pins: 1, 2

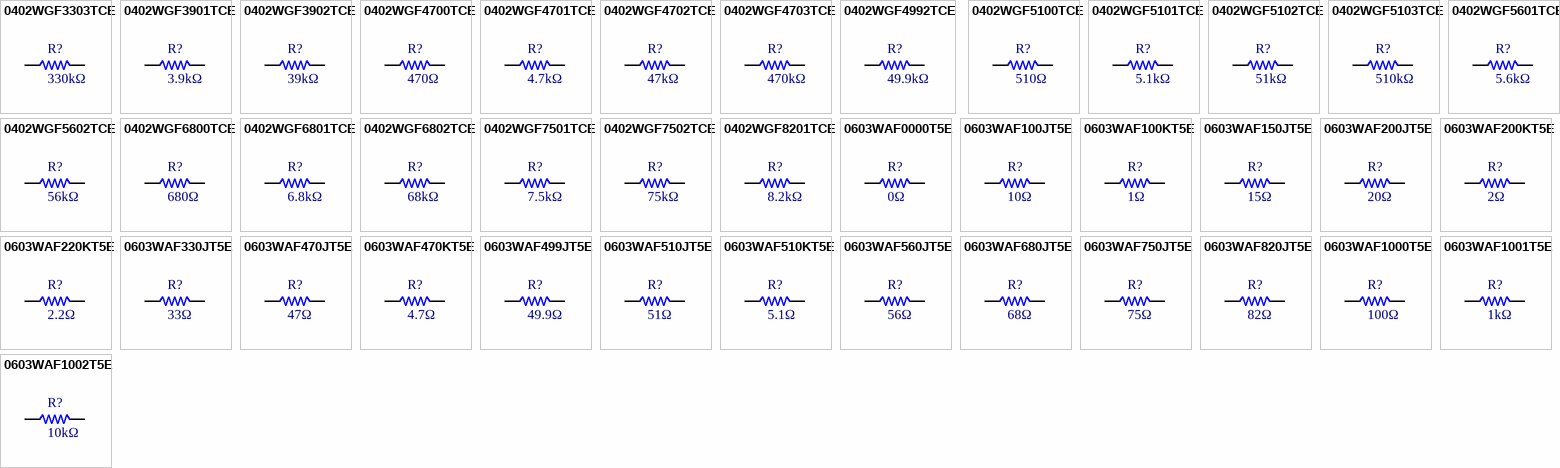
[diagram p1: symbols 0402WGF3303TCE to 0603WAF1002T5E]

## 0402WGF3303TCE
designator R?  Resistance: 330kΩ  (hidden comment: *)
Resistor, 330kΩ, ±1%, 62.5mW, 50V, ±100ppm/°C, -55°C to +155°C, SMD 0402; Manufacturer: Uniroyal; Manufacturer Part Number: 0402WGF3303TCE; Supplier 1: LCSC; Supplier Part Number 1: C25778; JLCPCB Part Number: C25778; Power Rating: 62.5mW; Category: Resistors; Package Size: 0402; JLCPCB Basic Part: Yes; Tolerance: ±1%; Voltage Rating: 50V; Temperature Coefficient: ±100ppm/°C; Temperature Rating: -55°C to +155°C; ComponentLink1Description: Datasheet; ComponentLink1URL: https://datasheet.lcsc.com/lcsc/2206010100_UNI-ROYAL-Uniroyal-Elec-0402WGF3303TCE_C25778.pdf; ComponentLink2Description: JLCPCB Part URL; ComponentLink2URL: https://jlcpcb.com/partdetail/26521-0402WGF3303TCE/C25778
footprint RES-0402 (0402 (1005M) Resistor)
pins: 1, 2

## 0402WGF3901TCE
designator R?  Resistance: 3.9kΩ  (hidden comment: *)
Resistor, 3.9kΩ, ±1%, 62.5mW, 50V, ±100ppm/°C, -55°C to +155°C, SMD 0402; Manufacturer: Uniroyal; Manufacturer Part Number: 0402WGF3901TCE; Supplier 1: LCSC; Supplier Part Number 1: C51721; JLCPCB Part Number: C51721; Power Rating: 62.5mW; Category: Resistors; Package Size: 0402; JLCPCB Basic Part: Yes; Tolerance: ±1%; Voltage Rating: 50V; Temperature Coefficient: ±100ppm/°C; Temperature Rating: -55°C to +155°C; ComponentLink1Description: Datasheet; ComponentLink1URL: https://datasheet.lcsc.com/lcsc/2206010000_UNI-ROYAL-Uniroyal-Elec-0402WGF3901TCE_C51721.pdf; ComponentLink2Description: JLCPCB Part URL; ComponentLink2URL: https://jlcpcb.com/partdetail/52734-0402WGF3901TCE/C51721
footprint RES-0402 (0402 (1005M) Resistor)
pins: 1, 2

## 0402WGF3902TCE
designator R?  Resistance: 39kΩ  (hidden comment: *)
Resistor, 39kΩ, ±1%, 62.5mW, 50V, ±100ppm/°C, -55°C to +155°C, SMD 0402; Manufacturer: Uniroyal; Manufacturer Part Number: 0402WGF3902TCE; Supplier 1: LCSC; Supplier Part Number 1: C25783; JLCPCB Part Number: C25783; Power Rating: 62.5mW; Category: Resistors; Package Size: 0402; JLCPCB Basic Part: Yes; Tolerance: ±1%; Voltage Rating: 50V; Temperature Coefficient: ±100ppm/°C; Temperature Rating: -55°C to +155°C; ComponentLink1Description: Datasheet; ComponentLink1URL: https://datasheet.lcsc.com/lcsc/2206010100_UNI-ROYAL-Uniroyal-Elec-0402WGF3902TCE_C25783.pdf; ComponentLink2Description: JLCPCB Part URL; ComponentLink2URL: https://jlcpcb.com/partdetail/26526-0402WGF3902TCE/C25783
footprint RES-0402 (0402 (1005M) Resistor)
pins: 1, 2

## 0402WGF4700TCE
designator R?  Resistance: 470Ω  (hidden comment: *)
Resistor, 470Ω, ±1%, 62.5mW, 50V, ±100ppm/°C, -55°C to +155°C, SMD 0402; Manufacturer: Uniroyal; Manufacturer Part Number: 0402WGF4700TCE; Supplier 1: LCSC; Supplier Part Number 1: C25117; JLCPCB Part Number: C25117; Power Rating: 62.5mW; Category: Resistors; Package Size: 0402; JLCPCB Basic Part: Yes; Tolerance: ±1%; Voltage Rating: 50V; Temperature Coefficient: ±100ppm/°C; Temperature Rating: -55°C to +155°C; ComponentLink1Description: Datasheet; ComponentLink1URL: https://datasheet.lcsc.com/lcsc/2205311900_UNI-ROYAL-Uniroyal-Elec-0402WGF4700TCE_C25117.pdf; ComponentLink2Description: JLCPCB Part URL; ComponentLink2URL: https://jlcpcb.com/partdetail/25860-0402WGF4700TCE/C25117
footprint RES-0402 (0402 (1005M) Resistor)
pins: 1, 2

## 0402WGF4701TCE
designator R?  Resistance: 4.7kΩ  (hidden comment: *)
Resistor, 4.7kΩ, ±1%, 62.5mW, 50V, ±100ppm/°C, -55°C to +155°C, SMD 0402; Manufacturer: Uniroyal; Manufacturer Part Number: 0402WGF4701TCE; Supplier 1: LCSC; Supplier Part Number 1: C25900; JLCPCB Part Number: C25900; Power Rating: 62.5mW; Category: Resistors; Package Size: 0402; JLCPCB Basic Part: Yes; Tolerance: ±1%; Voltage Rating: 50V; Temperature Coefficient: ±100ppm/°C; Temperature Rating: -55°C to +155°C; ComponentLink1Description: Datasheet; ComponentLink1URL: https://datasheet.lcsc.com/lcsc/2206010045_UNI-ROYAL-Uniroyal-Elec-0402WGF4701TCE_C25900.pdf; ComponentLink2Description: JLCPCB Part URL; ComponentLink2URL: https://jlcpcb.com/partdetail/26643-0402WGF4701TCE/C25900
footprint RES-0402 (0402 (1005M) Resistor)
pins: 1, 2

## 0402WGF4702TCE
designator R?  Resistance: 47kΩ  (hidden comment: *)
Resistor, 47kΩ, ±1%, 62.5mW, 50V, ±100ppm/°C, -55°C to +155°C, SMD 0402; Manufacturer: Uniroyal; Manufacturer Part Number: 0402WGF4702TCE; Supplier 1: LCSC; Supplier Part Number 1: C25792; JLCPCB Part Number: C25792; Power Rating: 62.5mW; Category: Resistors; Package Size: 0402; JLCPCB Basic Part: Yes; Tolerance: ±1%; Voltage Rating: 50V; Temperature Coefficient: ±100ppm/°C; Temperature Rating: -55°C to +155°C; ComponentLink1Description: Datasheet; ComponentLink1URL: https://datasheet.lcsc.com/lcsc/2206010100_UNI-ROYAL-Uniroyal-Elec-0402WGF4702TCE_C25792.pdf; ComponentLink2Description: JLCPCB Part URL; ComponentLink2URL: https://jlcpcb.com/partdetail/26535-0402WGF4702TCE/C25792
footprint RES-0402 (0402 (1005M) Resistor)
pins: 1, 2

## 0402WGF4703TCE
designator R?  Resistance: 470kΩ  (hidden comment: *)
Resistor, 470kΩ, ±1%, 62.5mW, 50V, ±100ppm/°C, -55°C to +155°C, SMD 0402; Manufacturer: Uniroyal; Manufacturer Part Number: 0402WGF4703TCE; Supplier 1: LCSC; Supplier Part Number 1: C25790; JLCPCB Part Number: C25790; Power Rating: 62.5mW; Category: Resistors; Package Size: 0402; JLCPCB Basic Part: Yes; Tolerance: ±1%; Voltage Rating: 50V; Temperature Coefficient: ±100ppm/°C; Temperature Rating: -55°C to +155°C; ComponentLink1Description: Datasheet; ComponentLink1URL: https://datasheet.lcsc.com/lcsc/2206010100_UNI-ROYAL-Uniroyal-Elec-0402WGF4703TCE_C25790.pdf; ComponentLink2Description: JLCPCB Part URL; ComponentLink2URL: https://jlcpcb.com/partdetail/26533-0402WGF4703TCE/C25790
footprint RES-0402 (0402 (1005M) Resistor)
pins: 1, 2

## 0402WGF4992TCE
designator R?  Resistance: 49.9kΩ  (hidden comment: *)
Resistor, 49.9kΩ, ±1%, 62.5mW, 50V, ±100ppm/°C, -55°C to +155°C, SMD 0402; Manufacturer: Uniroyal; Manufacturer Part Number: 0402WGF4992TCE; Supplier 1: LCSC; Supplier Part Number 1: C25897; JLCPCB Part Number: C25897; Power Rating: 62.5mW; Category: Resistors; Package Size: 0402; JLCPCB Basic Part: Yes; Tolerance: ±1%; Voltage Rating: 50V; Temperature Coefficient: ±100ppm/°C; Temperature Rating: -55°C to +155°C; ComponentLink1Description: Datasheet; ComponentLink1URL: https://datasheet.lcsc.com/lcsc/2206010045_UNI-ROYAL-Uniroyal-Elec-0402WGF4992TCE_C25897.pdf; ComponentLink2Description: JLCPCB Part URL; ComponentLink2URL: https://jlcpcb.com/partdetail/26640-0402WGF4992TCE/C25897
footprint RES-0402 (0402 (1005M) Resistor)
pins: 1, 2

## 0402WGF5100TCE
designator R?  Resistance: 510Ω  (hidden comment: *)
Resistor, 510Ω, ±1%, 62.5mW, 50V, ±100ppm/°C, -55°C to +155°C, SMD 0402; Manufacturer: Uniroyal; Manufacturer Part Number: 0402WGF5100TCE; Supplier 1: LCSC; Supplier Part Number 1: C25123; JLCPCB Part Number: C25123; Power Rating: 62.5mW; Category: Resistors; Package Size: 0402; JLCPCB Basic Part: Yes; Tolerance: ±1%; Voltage Rating: 50V; Temperature Coefficient: ±100ppm/°C; Temperature Rating: -55°C to +155°C; ComponentLink1Description: Datasheet; ComponentLink1URL: https://datasheet.lcsc.com/lcsc/2205311900_UNI-ROYAL-Uniroyal-Elec-0402WGF5100TCE_C25123.pdf; ComponentLink2Description: JLCPCB Part URL; ComponentLink2URL: https://jlcpcb.com/partdetail/25866-0402WGF5100TCE/C25123
footprint RES-0402 (0402 (1005M) Resistor)
pins: 1, 2

## 0402WGF5101TCE
designator R?  Resistance: 5.1kΩ  (hidden comment: *)
Resistor, 5.1kΩ, ±1%, 62.5mW, 50V, ±100ppm/°C, -55°C to +155°C, SMD 0402; Manufacturer: Uniroyal; Manufacturer Part Number: 0402WGF5101TCE; Supplier 1: LCSC; Supplier Part Number 1: C25905; JLCPCB Part Number: C25905; Power Rating: 62.5mW; Category: Resistors; Package Size: 0402; JLCPCB Basic Part: Yes; Tolerance: ±1%; Voltage Rating: 50V; Temperature Coefficient: ±100ppm/°C; Temperature Rating: -55°C to +155°C; ComponentLink1Description: Datasheet; ComponentLink1URL: https://datasheet.lcsc.com/lcsc/2206010045_UNI-ROYAL-Uniroyal-Elec-0402WGF5101TCE_C25905.pdf; ComponentLink2Description: JLCPCB Part URL; ComponentLink2URL: https://jlcpcb.com/partdetail/26648-0402WGF5101TCE/C25905
footprint RES-0402 (0402 (1005M) Resistor)
pins: 1, 2

## 0402WGF5102TCE
designator R?  Resistance: 51kΩ  (hidden comment: *)
Resistor, 51kΩ, ±1%, 62.5mW, 50V, ±100ppm/°C, -55°C to +155°C, SMD 0402; Manufacturer: Uniroyal; Manufacturer Part Number: 0402WGF5102TCE; Supplier 1: LCSC; Supplier Part Number 1: C25794; JLCPCB Part Number: C25794; Power Rating: 62.5mW; Category: Resistors; Package Size: 0402; JLCPCB Basic Part: Yes; Tolerance: ±1%; Voltage Rating: 50V; Temperature Coefficient: ±100ppm/°C; Temperature Rating: -55°C to +155°C; ComponentLink1Description: Datasheet; ComponentLink1URL: https://datasheet.lcsc.com/lcsc/2206010100_UNI-ROYAL-Uniroyal-Elec-0402WGF5102TCE_C25794.pdf; ComponentLink2Description: JLCPCB Part URL; ComponentLink2URL: https://jlcpcb.com/partdetail/26537-0402WGF5102TCE/C25794
footprint RES-0402 (0402 (1005M) Resistor)
pins: 1, 2

## 0402WGF5103TCE
designator R?  Resistance: 510kΩ  (hidden comment: *)
Resistor, 510kΩ, ±1%, 62.5mW, 50V, ±100ppm/°C, -55°C to +155°C, SMD 0402; Manufacturer: Uniroyal; Manufacturer Part Number: 0402WGF5103TCE; Supplier 1: LCSC; Supplier Part Number 1: C11616; JLCPCB Part Number: C11616; Power Rating: 62.5mW; Category: Resistors; Package Size: 0402; JLCPCB Basic Part: Yes; Tolerance: ±1%; Voltage Rating: 50V; Temperature Coefficient: ±100ppm/°C; Temperature Rating: -55°C to +155°C; ComponentLink1Description: Datasheet; ComponentLink1URL: https://datasheet.lcsc.com/lcsc/2206010216_UNI-ROYAL-Uniroyal-Elec-0402WGF5103TCE_C11616.pdf; ComponentLink2Description: JLCPCB Part URL; ComponentLink2URL: https://jlcpcb.com/partdetail/12170-0402WGF5103TCE/C11616
footprint RES-0402 (0402 (1005M) Resistor)
pins: 1, 2

## 0402WGF5601TCE
designator R?  Resistance: 5.6kΩ  (hidden comment: *)
Resistor, 5.6kΩ, ±1%, 62.5mW, 50V, ±100ppm/°C, -55°C to +155°C, SMD 0402; Manufacturer: Uniroyal; Manufacturer Part Number: 0402WGF5601TCE; Supplier 1: LCSC; Supplier Part Number 1: C25908; JLCPCB Part Number: C25908; Power Rating: 62.5mW; Category: Resistors; Package Size: 0402; JLCPCB Basic Part: Yes; Tolerance: ±1%; Voltage Rating: 50V; Temperature Coefficient: ±100ppm/°C; Temperature Rating: -55°C to +155°C; ComponentLink1Description: Datasheet; ComponentLink1URL: https://datasheet.lcsc.com/lcsc/2206010045_UNI-ROYAL-Uniroyal-Elec-0402WGF5601TCE_C25908.pdf; ComponentLink2Description: JLCPCB Part URL; ComponentLink2URL: https://jlcpcb.com/partdetail/26651-0402WGF5601TCE/C25908
footprint RES-0402 (0402 (1005M) Resistor)
pins: 1, 2

## 0402WGF5602TCE
designator R?  Resistance: 56kΩ  (hidden comment: *)
Resistor, 56kΩ, ±1%, 62.5mW, 50V, ±100ppm/°C, -55°C to +155°C, SMD 0402; Manufacturer: Uniroyal; Manufacturer Part Number: 0402WGF5602TCE; Supplier 1: LCSC; Supplier Part Number 1: C25796; JLCPCB Part Number: C25796; Power Rating: 62.5mW; Category: Resistors; Package Size: 0402; JLCPCB Basic Part: Yes; Tolerance: ±1%; Voltage Rating: 50V; Temperature Coefficient: ±100ppm/°C; Temperature Rating: -55°C to +155°C; ComponentLink1Description: Datasheet; ComponentLink1URL: https://datasheet.lcsc.com/lcsc/2206010100_UNI-ROYAL-Uniroyal-Elec-0402WGF5602TCE_C25796.pdf; ComponentLink2Description: JLCPCB Part URL; ComponentLink2URL: https://jlcpcb.com/partdetail/26539-0402WGF5602TCE/C25796
footprint RES-0402 (0402 (1005M) Resistor)
pins: 1, 2

## 0402WGF6800TCE
designator R?  Resistance: 680Ω  (hidden comment: *)
Resistor, 680Ω, ±1%, 62.5mW, 50V, ±100ppm/°C, -55°C to +155°C, SMD 0402; Manufacturer: Uniroyal; Manufacturer Part Number: 0402WGF6800TCE; Supplier 1: LCSC; Supplier Part Number 1: C25130; JLCPCB Part Number: C25130; Power Rating: 62.5mW; Category: Resistors; Package Size: 0402; JLCPCB Basic Part: Yes; Tolerance: ±1%; Voltage Rating: 50V; Temperature Coefficient: ±100ppm/°C; Temperature Rating: -55°C to +155°C; ComponentLink1Description: Datasheet; ComponentLink1URL: https://datasheet.lcsc.com/lcsc/2205311900_UNI-ROYAL-Uniroyal-Elec-0402WGF6800TCE_C25130.pdf; ComponentLink2Description: JLCPCB Part URL; ComponentLink2URL: https://jlcpcb.com/partdetail/25873-0402WGF6800TCE/C25130
footprint RES-0402 (0402 (1005M) Resistor)
pins: 1, 2

## 0402WGF6801TCE
designator R?  Resistance: 6.8kΩ  (hidden comment: *)
Resistor, 6.8kΩ, ±1%, 62.5mW, 50V, ±100ppm/°C, -55°C to +155°C, SMD 0402; Manufacturer: Uniroyal; Manufacturer Part Number: 0402WGF6801TCE; Supplier 1: LCSC; Supplier Part Number 1: C25917; JLCPCB Part Number: C25917; Power Rating: 62.5mW; Category: Resistors; Package Size: 0402; JLCPCB Basic Part: Yes; Tolerance: ±1%; Voltage Rating: 50V; Temperature Coefficient: ±100ppm/°C; Temperature Rating: -55°C to +155°C; ComponentLink1Description: Datasheet; ComponentLink1URL: https://datasheet.lcsc.com/lcsc/2206010045_UNI-ROYAL-Uniroyal-Elec-0402WGF6801TCE_C25917.pdf; ComponentLink2Description: JLCPCB Part URL; ComponentLink2URL: https://jlcpcb.com/partdetail/26660-0402WGF6801TCE/C25917
footprint RES-0402 (0402 (1005M) Resistor)
pins: 1, 2

## 0402WGF6802TCE
designator R?  Resistance: 68kΩ  (hidden comment: *)
Resistor, 68kΩ, ±1%, 62.5mW, 50V, ±100ppm/°C, -55°C to +155°C, SMD 0402; Manufacturer: Uniroyal; Manufacturer Part Number: 0402WGF6802TCE; Supplier 1: LCSC; Supplier Part Number 1: C36871; JLCPCB Part Number: C36871; Power Rating: 62.5mW; Category: Resistors; Package Size: 0402; JLCPCB Basic Part: Yes; Tolerance: ±1%; Voltage Rating: 50V; Temperature Coefficient: ±100ppm/°C; Temperature Rating: -55°C to +155°C; ComponentLink1Description: Datasheet; ComponentLink1URL: https://datasheet.lcsc.com/lcsc/2206010030_UNI-ROYAL-Uniroyal-Elec-0402WGF6802TCE_C36871.pdf; ComponentLink2Description: JLCPCB Part URL; ComponentLink2URL: https://jlcpcb.com/partdetail/37849-0402WGF6802TCE/C36871
footprint RES-0402 (0402 (1005M) Resistor)
pins: 1, 2

## 0402WGF7501TCE
designator R?  Resistance: 7.5kΩ  (hidden comment: *)
Resistor, 7.5kΩ, ±1%, 62.5mW, 50V, ±100ppm/°C, -55°C to +155°C, SMD 0402; Manufacturer: Uniroyal; Manufacturer Part Number: 0402WGF7501TCE; Supplier 1: LCSC; Supplier Part Number 1: C25918; JLCPCB Part Number: C25918; Power Rating: 62.5mW; Category: Resistors; Package Size: 0402; JLCPCB Basic Part: Yes; Tolerance: ±1%; Voltage Rating: 50V; Temperature Coefficient: ±100ppm/°C; Temperature Rating: -55°C to +155°C; ComponentLink1Description: Datasheet; ComponentLink1URL: https://datasheet.lcsc.com/lcsc/2206010045_UNI-ROYAL-Uniroyal-Elec-0402WGF7501TCE_C25918.pdf; ComponentLink2Description: JLCPCB Part URL; ComponentLink2URL: https://jlcpcb.com/partdetail/26661-0402WGF7501TCE/C25918
footprint RES-0402 (0402 (1005M) Resistor)
pins: 1, 2

## 0402WGF7502TCE
designator R?  Resistance: 75kΩ  (hidden comment: *)
Resistor, 75kΩ, ±1%, 62.5mW, 50V, ±100ppm/°C, -55°C to +155°C, SMD 0402; Manufacturer: Uniroyal; Manufacturer Part Number: 0402WGF7502TCE; Supplier 1: LCSC; Supplier Part Number 1: C25798; JLCPCB Part Number: C25798; Power Rating: 62.5mW; Category: Resistors; Package Size: 0402; JLCPCB Basic Part: Yes; Tolerance: ±1%; Voltage Rating: 50V; Temperature Coefficient: ±100ppm/°C; Temperature Rating: -55°C to +155°C; ComponentLink1Description: Datasheet; ComponentLink1URL: https://datasheet.lcsc.com/lcsc/2206010045_UNI-ROYAL-Uniroyal-Elec-0402WGF7502TCE_C25798.pdf; ComponentLink2Description: JLCPCB Part URL; ComponentLink2URL: https://jlcpcb.com/partdetail/26541-0402WGF7502TCE/C25798
footprint RES-0402 (0402 (1005M) Resistor)
pins: 1, 2

## 0402WGF8201TCE
designator R?  Resistance: 8.2kΩ  (hidden comment: *)
Resistor, 8.2kΩ, ±1%, 62.5mW, 50V, ±100ppm/°C, -55°C to +155°C, SMD 0402; Manufacturer: Uniroyal; Manufacturer Part Number: 0402WGF8201TCE; Supplier 1: LCSC; Supplier Part Number 1: C25924; JLCPCB Part Number: C25924; Power Rating: 62.5mW; Category: Resistors; Package Size: 0402; JLCPCB Basic Part: Yes; Tolerance: ±1%; Voltage Rating: 50V; Temperature Coefficient: ±100ppm/°C; Temperature Rating: -55°C to +155°C; ComponentLink1Description: Datasheet; ComponentLink1URL: https://datasheet.lcsc.com/lcsc/2206010045_UNI-ROYAL-Uniroyal-Elec-0402WGF8201TCE_C25924.pdf; ComponentLink2Description: JLCPCB Part URL; ComponentLink2URL: https://jlcpcb.com/partdetail/26667-0402WGF8201TCE/C25924
footprint RES-0402 (0402 (1005M) Resistor)
pins: 1, 2

## 0603WAF0000T5E
designator R?  Resistance: 0Ω  (hidden comment: *)
Resistor, 0Ω, ±1%, 100mW, 75V, -55°C to +155°C, SMD 0603; Manufacturer: Uniroyal; Manufacturer Part Number: 0603WAF0000T5E; Supplier 1: LCSC; Supplier Part Number 1: C21189; JLCPCB Part Number: C21189; Power Rating: 100mW; Category: Resistors; Package Size: 0603; JLCPCB Basic Part: Yes; Tolerance: ±1%; Voltage Rating: 75V; Temperature Rating: -55°C to +155°C; ComponentLink1Description: Datasheet; ComponentLink1URL: https://datasheet.lcsc.com/lcsc/2206010130_UNI-ROYAL-Uniroyal-Elec-0603WAF0000T5E_C21189.pdf; ComponentLink2Description: JLCPCB Part URL; ComponentLink2URL: https://jlcpcb.com/partdetail/21903-0603WAF0000T5E/C21189
footprint RES-0603 (0603 (1608M) Resistor)
pins: 1, 2